# EAGLE library part SFY5 (library Panasonic Relay)
SF-Y - 5 Form A 1 Form B Data sheet <https://www.panasonic-electric-works.com/eu/download.htm?id=55626> Parameters Max. switching voltage: 250V AC, 30V DC Max. switching current: 6A Operational function: Contact arrangement: 2 NO/ 2 NC, 3 NO/ 1 NC, 4 NO/ 2 NC, 5 NO / 1 NC Applications Emergency stop switches Machine safety engineering Safety control units Automation technology Elevator Escalators Overcurrent protection with monitor contact Options
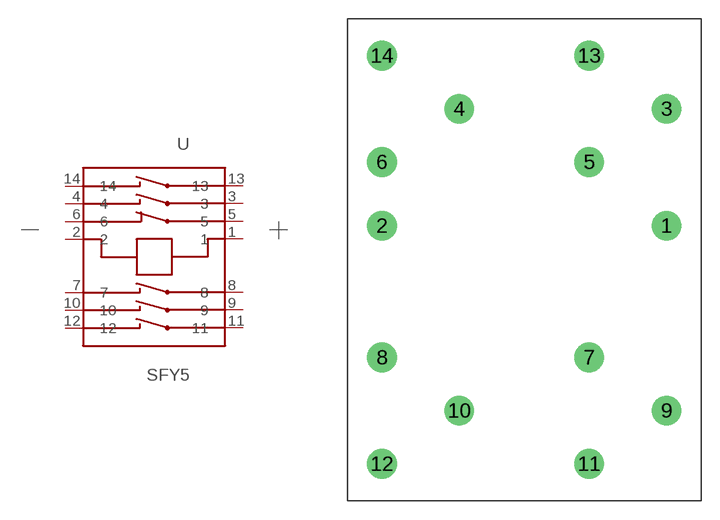
[diagram p0: symbol with the pads of SFY_6-POLE; footprint SFY_6-POLE]

Designator prefix -

## SFY5-DC12V (U_COIL: 12V DC), SFY5-DC18V (U_COIL: 18V DC), SFY5-DC21V (U_COIL: 21V DC), SFY5-DC24V (U_COIL: 24V DC), SFY5-DC5V (U_COIL: 5V DC)  [SFY_6-POLE]
1  1
2  2
3  3
4  4
5  5
6  6
7  7
8  8
9  9
10  10
11  11
12  12
13  13
14  14

## Footprint SFY_6-POLE (pad centres in mm)
drill 1.6: 1 11.5,2.75; 2 -11.5,2.75; 3 11.5,12.2; 4 -5.25,12.2; 5 5.25,7.9; 6 -11.5,7.9; 7 5.25,-7.9; 8 -11.5,-7.9; 9 11.5,-12.2; 10 -5.25,-12.2; 11 5.25,-16.5; 12 -11.5,-16.5; 13 5.25,16.5; 14 -11.5,16.5